# Altium schematic symbol library ILI9341_Display.SchLib: 1 symbol
Pins are listed as number, name and electrical type; pins without a type are passive.

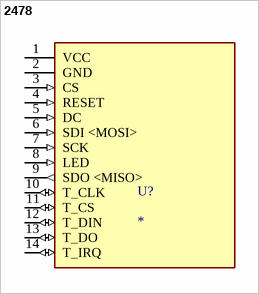
[diagram p0: symbol 2478]

## 2478
designator U?
Resistive Graphic LCD Display Module Red, Green, Blue (RGB) TFT - Color Parallel, 8-Bit, SPI 2.4 (60.96mm) 240 x 320; MF: Adafruit Industries; MP: 2478; Package: NON STANDARD Adafruit; Price: None; Value: *; SnapEDA_Link: https://www.snapeda.com/parts/2478/Adafruit+Industries+LLC/view-part/?ref=snap; Availability: In Stock; Check_prices: https://www.snapeda.com/parts/2478/Adafruit+Industries+LLC/view-part/?ref=eda
footprint ILI9341_Display
pins: 1 VCC (power), 2 GND (power), 3 CS (in), 4 RESET (in), 5 DC (in), 6 SDI <MOSI> (in), 7 SCK (in), 8 LED (in), 9 SDO <MISO> (out), 10 T_CLK (io), 11 T_CS (io), 12 T_DIN (io), 13 T_DO (io), 14 T_IRQ (io)